# Altium schematic symbol library JUMPER_NO.SchLib: 1 symbol
Pins are listed as number, name and electrical type; pins without a type are passive.

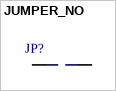
[diagram p0: symbol JUMPER_NO]

## JUMPER_NO
designator JP?  (no BOM)
pins: 1, 2